# Altium footprint library Interface.PcbLib: 28 footprints (part 2 of 2)
Each footprint in its own frame and in the unit in brackets; x right, y up, seen from the top. Pads: shape width x height; smd on the part's side, far side on the other; paste and mask are expansions set on the pad; w line width, h text height; cw(c..) or ccw(c..) is an arc to the next point about the centre after c.
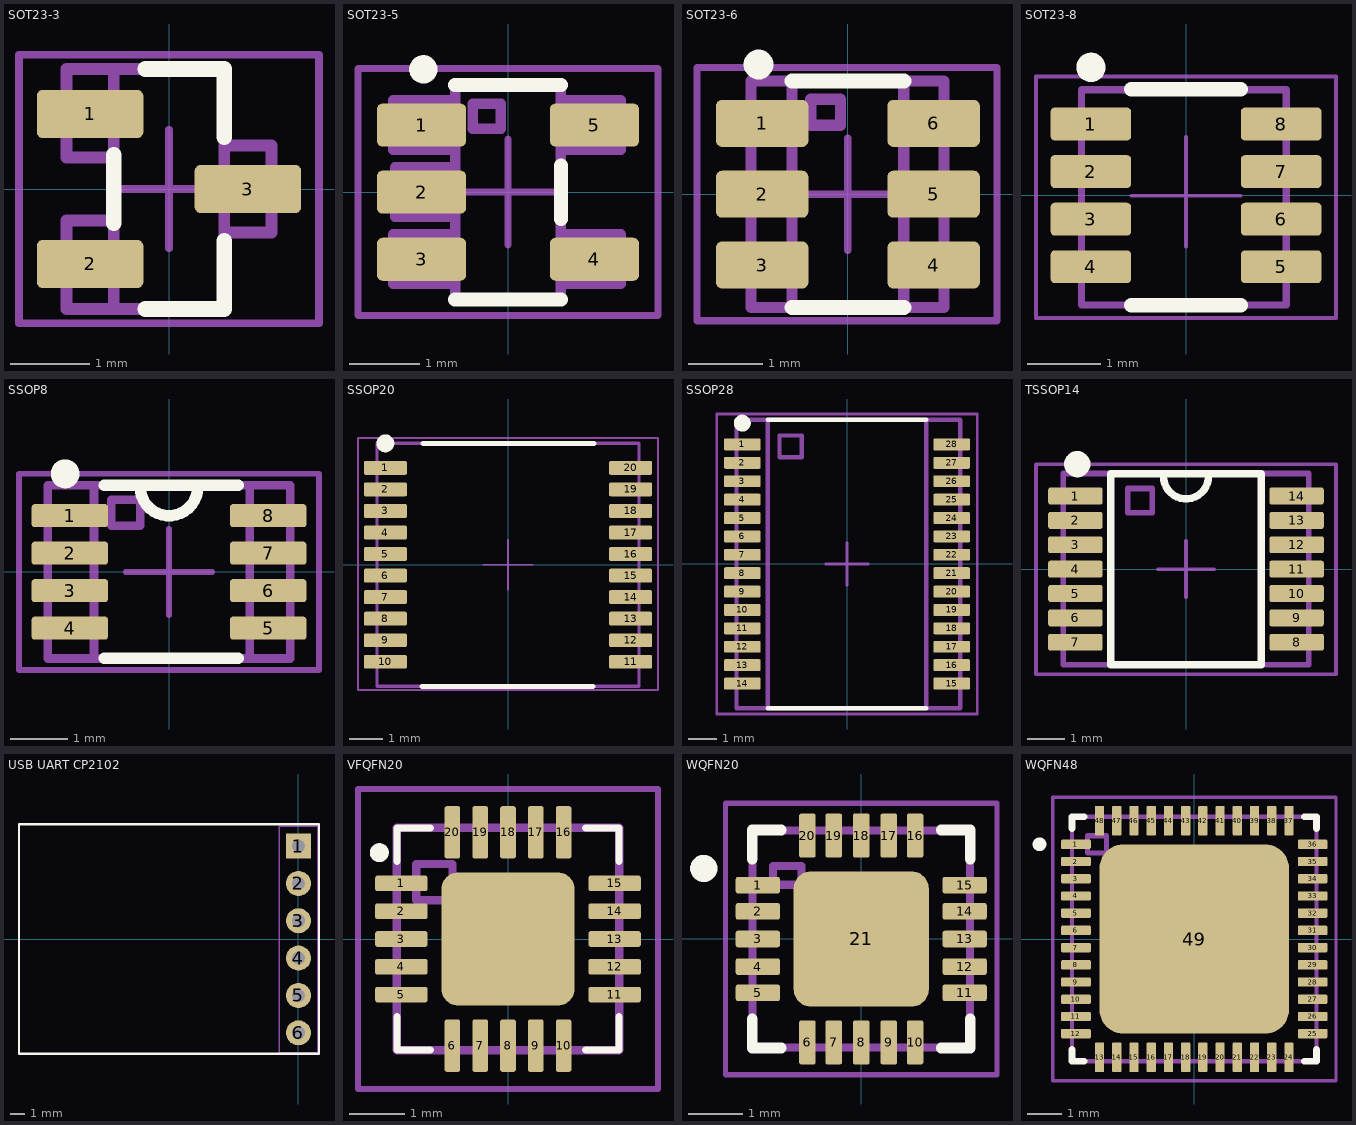
[diagram p1: the footprints below, top view; thin cyan lines are the x and y axes]

## SOT23-3 [mm]
height 1.12
pads (3):
  rrect25% 1.35x0.61 smd: 1(-1,0.95) 2(-1,-0.95) 3(1,0)
Top Overlay:
  lines w0.2: -0.7,-0.43 -0.7,0.43 ; -0.3,-1.52 0.7,-1.52 0.7,-0.66 ; -0.3,1.52 0.7,1.52 0.7,0.66
Mechanical 9:
  text ".Designator" at -4.25,2.75 h3.5
Mechanical 10:
  text ".Comment" at -3,-3.5 h2
Mechanical 11:
  lines w0.15: -0.7,-1.52 -0.7,1.52 ; -0.7,-0.4 -1.3,-0.4 -1.3,-1.52 0.7,-1.52 0.7,1.52 -1.3,1.52 -1.3,0.4 -0.7,0.4 ; 0.7,-0.55 1.3,-0.55 1.3,0.55 0.7,0.55
Mechanical 15:
  lines w0.1: -0.75,0 0.75,0 ; 0,-0.75 0,0.75 ; -1.9,-1.7 -1.9,1.7 1.9,1.7 1.9,-1.7 -1.9,-1.7
3D body "SOT-23-3.STEP": height 1.1, standoff 0, extent -1.15,-1.5 1.15,1.5

## SOT23-5 [mm]
height 1.12
pads (5):
  rrect25% 1.26x0.61 smd: 1(-1.225,0.95) 2(-1.225,0) 3(-1.225,-0.95) 4(1.225,-0.95) 5(1.225,0.95)
Top Overlay:
  circle w0.2: c-1.2,1.74 r0.1
  lines w0.2: -0.75,-1.52 0.75,-1.52 ; -0.75,1.52 0.75,1.52 ; 0.75,-0.38 0.75,0.38
Mechanical 9:
  text ".Designator" at -4.575,2.7 h3
Mechanical 10:
  text ".Comment" at -3.325,-3.55 h2
Mechanical 11:
  lines w0.15: -0.75,-1.3 -1.625,-1.3 -1.625,-0.6 -0.75,-0.6 ; -0.75,-0.35 -1.6,-0.35 -1.6,0.35 -0.75,0.35 ; -0.75,0.6 -1.625,0.6 -1.625,1.3 -0.75,1.3 ; 0.75,-1.3 1.6,-1.3 1.6,-0.6 0.75,-0.6 ; 0.75,0.6 1.6,0.6 1.6,1.3 0.75,1.3 ; -0.75,-1.52 -0.75,1.52 0.75,1.52 0.75,-1.52 -0.75,-1.52 ; -0.5,0.9 -0.5,1.25 -0.1,1.25 -0.1,0.9 -0.5,0.9
Mechanical 15:
  lines w0.1: -0.75,0 0.75,0 ; 0,-0.75 0,0.75 ; -2.125,-1.75 2.125,-1.75 2.125,1.75 -2,1.75 -2.125,1.75 -2.125,-1.75
3D body "User Library-SOT23-5-3.STEP": height 1.45, standoff 0.01, extent -1.6,-1.555 1.6,1.545

## SOT23-6 [mm]
height 1.12
pads (6):
  rrect25% 1.24x0.63 smd: 1(-1.15,0.95) 2(-1.15,0) 3(-1.15,-0.95) 4(1.15,-0.95) 5(1.15,0) 6(1.15,0.95)
Top Overlay:
  circle w0.2: c-1.2,1.74 r0.1
  lines w0.2: -0.75,-1.52 0.75,-1.52 ; -0.75,1.52 0.75,1.52
Mechanical 9:
  text ".Designator" at -4.275,2.525 h3.5
Mechanical 10:
  text ".Comment" at -3.025,-3.025 h2
Mechanical 11:
  lines w0.15: -0.75,-1.52 -0.75,1.52 ; 0.75,-1.52 0.75,1.52 ; -1.3,-1.52 1.29,-1.52 1.29,1.52 -1.3,1.52 -1.3,-1.52 ; -0.5,0.925 -0.5,1.275 -0.1,1.275 -0.1,0.925 -0.5,0.925
Mechanical 15:
  lines w0.1: -0.75,0 0.75,0 ; 0,-0.75 0,0.75 ; -2.025,-1.7 2,-1.7 2,1.7 -2.025,1.7 -2.025,-1.7
3D body "SW3dPS-SOT-23-6.STEP": height 1.09, standoff 0, extent -1.201,-1.397 1.225,1.397

## SOT23-8 [mm]
height 1.12
pads (8):
  rrect25% 1.1x0.45 smd: 1(-1.3,0.975) 2(-1.3,0.325) 3(-1.3,-0.325) 4(-1.3,-0.975) 5(1.3,-0.975) 6(1.3,-0.325) 7(1.3,0.325) 8(1.3,0.975)
Top Overlay:
  circle w0.2: c-1.3,1.75 r0.1
  lines w0.2: -0.75,-1.5 0.75,-1.5 ; -0.75,1.45 0.75,1.45
Mechanical 13:
  lines w0.1: -1.429,-1.498 1.371,-1.498 1.371,1.442 -1.429,1.442 -1.429,-1.498
Mechanical 15:
  lines w0.05: -0.75,-0.003 0.75,-0.003 ; 0,-0.703 0,0.797 ; -2.05,-1.675 -2.05,1.625 2.05,1.625 2.05,-1.675 -2.05,-1.675
3D body "User Library-sot238.step": height 1.2, standoff 0, extent -1.429,-1.498 1.371,1.442

## SSOP8 [mm]
height 1.75
pads (8):
  rrect25% 1.32x0.4 smd: 1(-1.72,0.975) 2(-1.72,0.325) 3(-1.72,-0.325) 4(-1.72,-0.975) 5(1.72,-0.975) 6(1.72,-0.325) 7(1.72,0.325) 8(1.72,0.975)
Top Overlay:
  circle w0.25: c-1.8,1.7 r0.125
  lines w0.2: -1.125,-1.5 1.2,-1.5 ; -1.125,1.5 1.2,1.5 ; -0.5,1.475 ccw(c0,1.475) 0.5,1.475
Mechanical 9:
  text ".Designator" at -4.25,2.8 h3.5
Mechanical 10:
  text ".Comment" at -3,-3.45 h2
Mechanical 11:
  lines w0.15: -1.3,-1.5 1.4,-1.5 ; -1.3,-1.5 -1.3,1.5 ; -1.3,-1.5 -2.1,-1.5 -2.1,1.5 -1.3,1.5 ; -1.3,1.5 1.4,1.5 ; 1.4,-1.5 1.4,1.5 ; 1.4,-1.5 2.1,-1.5 2.1,1.5 1.4,1.5 ; -1,0.8 -1,1.25 -0.5,1.25 -0.5,0.8 -1,0.8
Mechanical 15:
  lines w0.1: -0.75,0 0.75,0 ; 0,-0.75 0,0.75 ; -2.6,-1.7 2.6,-1.7 2.6,1.7 -2.6,1.7 -2.6,-1.7
3D body "User Library-DCT-8.STEP": height 1.31, standoff 0.01, extent -2.1,-1.525 2.1,1.525

## SSOP20 [mm] "6.5mm x 6.4mm"
height 1.2
pads (20):
  rrect25% 1.3x0.42 smd: 1(-3.7,2.925) 2(-3.7,2.275) 3(-3.7,1.625) 4(-3.7,0.975) 5(-3.7,0.325) 6(-3.7,-0.325) 7(-3.7,-0.975) 8(-3.7,-1.625) 9(-3.7,-2.275) 10(-3.7,-2.925) 11(3.7,-2.925) 12(3.7,-2.275) 13(3.7,-1.625) 14(3.7,-0.975) 15(3.7,-0.325) 16(3.7,0.325) 17(3.7,0.975) 18(3.7,1.625) 19(3.7,2.275) 20(3.7,2.925)
Top Overlay:
  circle w0.3: c-3.7,3.665 r0.12
  lines w0.15: -2.596,-3.665 2.562,-3.665 ; -2.562,3.665 2.596,3.665
Mechanical 13:
  lines w0.1: -3.95,-3.665 3.95,-3.665 3.95,3.665 -3.95,3.665 -3.95,-3.665
Mechanical 15:
  lines w0.05: -0.75,0 0.75,0 ; 0,-0.75 0,0.75 ; -4.525,-3.775 4.525,-3.775 4.525,3.825 -4.525,3.825 -4.525,-3.775
3D body "User Library-SSOP 20 PIN-1.step": height 1.98, standoff -0.01, extent -3.95,-3.665 3.95,3.665

## SSOP28 [mm]
height 1.1
pads (28):
  rrect25% 1.3x0.42 smd: 1(-3.7,4.225) 2(-3.7,3.575) 3(-3.7,2.925) 4(-3.7,2.275) 5(-3.7,1.625) 6(-3.7,0.975) 7(-3.7,0.325) 8(-3.7,-0.325) 9(-3.7,-0.975) 10(-3.7,-1.625) 11(-3.7,-2.275) 12(-3.7,-2.925) 13(-3.7,-3.575) 14(-3.7,-4.225) 15(3.7,-4.225) 16(3.7,-3.575) 17(3.7,-2.925) 18(3.7,-2.275) 19(3.7,-1.625) 20(3.7,-0.975) 21(3.7,-0.325) 22(3.7,0.325) 23(3.7,0.975) 24(3.7,1.625) 25(3.7,2.275) 26(3.7,2.925) 27(3.7,3.575) 28(3.7,4.225)
Top Overlay:
  circle w0.3: c-3.7,4.975 r0.15
  lines w0.15: -2.8,-5.1 2.8,-5.1 ; -2.8,5.1 2.8,5.1
Mechanical 9:
  text ".Designator" at -4.6,5.875 h3.5
Mechanical 10:
  text ".Comment" at -3,-3.825 h2
Mechanical 11:
  lines w0.15: -2.8,-5.1 -2.8,5.1 ; 2.8,-5.1 2.8,5.1 ; -3.9,-5.1 4,-5.1 4,5.1 -3.9,5.1 -3.9,-5.1 ; -2.381,3.775 -2.381,4.538 -1.6,4.538 -1.6,3.775 -2.381,3.775
Mechanical 15:
  lines w0.1: -0.75,0 0.75,0 ; 0,-0.75 0,0.75 ; -4.6,-5.3 -4.6,5.3 4.6,5.3 4.6,-5.3 -4.6,-5.3
3D body "User Library-SSOP-28-3.STEP": height 1.9, standoff 0, extent -3.9,-5.1 3.9,5.1

## TSSOP14 [mm]
height 1.1
pads (14):
  rrect25% 1.45x0.45 smd: 1(-2.95,1.95) 2(-2.95,1.3) 3(-2.95,0.65) 4(-2.95,0) 5(-2.95,-0.65) 6(-2.95,-1.3) 7(-2.95,-1.95) 8(2.95,-1.95) 9(2.95,-1.3) 10(2.95,-0.65) 11(2.95,0) 12(2.95,0.65) 13(2.95,1.3) 14(2.95,1.95)
Top Overlay:
  circle w0.4: c-2.9,2.8 r0.15
  lines w0.2: -0.6,2.475 ccw(c0,2.475) 0.6,2.475 ; -2,-2.55 2,-2.55 2,2.55 -2,2.55 -2,-2.55
Mechanical 9:
  text ".Designator" at -4.6,3.3 h3.5
Mechanical 10:
  text ".Comment" at -2.7,-4.1 h2
Mechanical 11:
  lines w0.15: -2,-2.55 -2,2.55 ; 2,-2.55 2,2.45 ; -3.275,-2.55 -3.275,2.55 3.275,2.55 3.275,-2.55 -3.275,-2.55 ; -1.55,1.5 -0.9,1.5 -0.9,2.15 -1.55,2.15 -1.55,1.5
Mechanical 15:
  lines w0.1: -0.75,0 0.75,0 ; 0,-0.75 0,0.75 ; -4,-2.8 -4,2.8 4,2.8 4,-2.8 -4,-2.8
3D body "User Library-TSSOP-14.STEP": height 1.2, standoff 0, extent -3.2,-2.5 3.2,2.5

## USB UART CP2102 [mm]
height 0.05
pads (6):
  rect 1.7x1.7 hole 0.9: 1(0,6.345)
  round 1.7 hole 0.9: 2(0,3.805) 3(0,1.265) 5(0,-3.815) 6(0,-6.355)
  round 1.7 hole 0.9 mask+0.102: 4(0,-1.275)
Top Overlay:
  lines w0.15: -19,-7.775 1.4,-7.775 1.4,7.825 -19,7.825 -19,-7.775
Mechanical 7:
  lines w0.1: -1.3,-7.7 1.3,-7.7 1.3,7.7 -1.3,7.7 -1.3,-7.7
Mechanical 10:
  text ".Designator" at 1.2,8.4 h0.8
  text ".Comment" at 1.1,-0.3 h0.6
3D body "User Library-PLS-6.step": height 8.54, standoff -3, extent -1.27,-7.585 1.27,7.655

## VFQFN20 [mm]
height 0.8
pads (21):
  rrect25% 0.94x0.28 smd: 1(-1.92,1) 2(-1.92,0.5) 3(-1.92,0) 4(-1.92,-0.5) 5(-1.92,-1) 11(1.92,-1) 12(1.92,-0.5) 13(1.92,0) 14(1.92,0.5) 15(1.92,1)
  rrect25% 0.28x0.94 smd: 6(-1,-1.92) 7(-0.5,-1.92) 8(0,-1.92) 9(0.5,-1.92) 10(1,-1.92) 16(1,1.92) 17(0.5,1.92) 18(0,1.92) 19(-0.5,1.92) 20(-1,1.92)
  rrect25% 2.4x2.4 smd: ""(0,0)
Top Overlay:
  circle w0.2: c-2.316,1.554 r0.07
  lines w0.127: -2,-1.4 -2,-2 -1.4,-2 ; -2,1.4 -2,2 -1.4,2 ; 1.4,-2 2,-2 2,-1.4 ; 1.4,2 2,2 2,1.4
Top Paste:
  region: 1.091,-0.131 1.091,-1.091 0.129,-1.091 0.129,-0.131
  region: -1.09,0.13 -1.09,1.09 -0.13,1.09 -0.13,0.13
  region: -0.13,-1.09 -1.09,-1.09 -1.09,-0.13 -0.13,-0.13
  region: 0.13,1.09 1.09,1.09 1.09,0.13 0.13,0.13
Mechanical 9:
  text ".Designator" at -4.6,3.3 h3.5
Mechanical 10:
  text ".Comment" at -2.7,-4.1 h2
Mechanical 11:
  lines w0.15: -2,-2 -2,2 ; -2,-2 -2,2 ; -2,-2 2,-2 ; -2,-2 2,-2 ; -2,2 2,2 ; -2,2 2,2 ; 2,-2 2,2 ; 2,-2 2,2 ; -1.65,0.7 -1,0.7 -1,1.35 -1.65,1.35 -1.65,0.7
Mechanical 15:
  lines w0.1: -0.75,0 0.75,0 ; 0,-0.75 0,0.75 ; -2.7,-2.7 -2.7,2.7 2.7,2.7 2.7,-2.7 -2.7,-2.7
3D body "User Library-QFN20_4x4x0_8 (1).step": height 0.78, standoff -0.02, extent -2.01,-2.01 2.01,2.01

## WQFN20 [mil]
height 31.5
pads (21):
  rrect25% 32x12 smd: 1(-75,39) 2(-75,20) 3(-75,0) 4(-75,-20) 5(-75,-39) 11(75,-39) 12(75,-20) 13(75,0) 14(75,20) 15(75,39)
  rrect25% 12x32 smd: 6(-39,-75) 7(-20,-75) 8(0,-75) 9(20,-75) 10(39,-75) 16(39,75) 17(20,75) 18(0,75) 19(-20,75) 20(-39,75)
  rrect25% 98x98 smd: 21(0,0)
Top Overlay:
  circle w9.84: c-114.17,51.18 r4.92
  lines w7.87: -79,-58 -79,-79 -58,-79 ; -79,58 -79,79 -58,79 ; 58,-79 79,-79 79,-58 ; 58,79 79,79 79,58
Mechanical 9:
  text ".Designator" at -192.91,141.73 h137.8
Mechanical 10:
  text ".Comment" at -114.17,-169.29 h78.74
Mechanical 11:
  lines w5.91: -78.74,-78.74 78.74,-78.74 78.74,78.74 -78.74,78.74 -78.74,-78.74 ; -63.98,39.37 -63.98,52.88 -43.31,52.88 -43.31,39.37 -63.98,39.37
Mechanical 15:
  lines w3.94: -19.69,0 19.68,0 ; 0,-19.69 0,19.68 ; -98.43,-98.43 98.43,-98.43 98.43,98.43 -98.43,98.43 -98.43,-98.43
3D body "User Library-QFN20_4x4x0_8 (1).step": height 30.71, standoff -0.79, extent -79.13,-79.13 79.14,79.13

## WQFN48 [mm] "QFN, 28-Leads, Body 5,0x5,0mm (max), Pitch 0,50mm, IPC Medium Density"
height 1
pads (49):
  rrect25% 0.86x0.27 smd: 1(-3.435,2.75) 2(-3.435,2.25) 3(-3.435,1.75) 4(-3.435,1.25) 5(-3.435,0.75) 6(-3.435,0.25) 7(-3.435,-0.25) 8(-3.435,-0.75) 9(-3.435,-1.25) 10(-3.435,-1.75) 11(-3.435,-2.25) 12(-3.435,-2.75) 25(3.435,-2.75) 26(3.435,-2.25) 27(3.435,-1.75) 28(3.435,-1.25) 29(3.435,-0.75) 30(3.435,-0.25) 31(3.435,0.25) 32(3.435,0.75) 33(3.435,1.25) 34(3.435,1.75) 35(3.435,2.25) 36(3.435,2.75)
  rrect25% 0.27x0.86 smd: 13(-2.75,-3.435) 14(-2.25,-3.435) 15(-1.75,-3.435) 16(-1.25,-3.435) 17(-0.75,-3.435) 18(-0.25,-3.435) 19(0.25,-3.435) 20(0.75,-3.435) 21(1.25,-3.435) 22(1.75,-3.435) 23(2.25,-3.435) 24(2.75,-3.435) 37(2.75,3.435) 38(2.25,3.435) 39(1.75,3.435) 40(1.25,3.435) 41(0.75,3.435) 42(0.25,3.435) 43(-0.25,3.435) 44(-0.75,3.435) 45(-1.25,3.435) 46(-1.75,3.435) 47(-2.25,3.435) 48(-2.75,3.435)
  rrect25% 5.5x5.5 smd: 49(0,0)
Top Overlay:
  circle w0.2: c-4.495,2.75 r0.1
  lines w0.2: -3.55,-3.205 -3.55,-3.55 -3.205,-3.55 ; -3.55,3.205 -3.55,3.55 -3.205,3.55 ; 3.205,-3.55 3.55,-3.55 3.55,-3.205 ; 3.205,3.55 3.55,3.55 3.55,3.205
Top Paste:
  region: -2.245,2.245 -0.505,2.245 -0.505,0.505 -2.245,0.505
  region: 0.505,2.245 2.245,2.245 2.245,0.505 0.505,0.505
  region: -2.245,-0.505 -0.505,-0.505 -0.505,-2.245 -2.245,-2.245
  region: 0.505,-0.505 2.245,-0.505 2.245,-2.245 0.505,-2.245
Mechanical 9:
  text ".Designator" at -6.1,5.3 h3.5
Mechanical 10:
  text ".Comment" at -2.75,-5.7 h2
Mechanical 11:
  lines w0.127: -3.55,-3.55 3.55,-3.55 ; -3.55,-3.55 -3.55,3.55 ; -3.55,-3.55 3.55,-3.55 ; -3.55,-3.55 -3.55,3.55 ; -3.55,3.55 3.55,3.55 ; -3.55,3.55 3.55,3.55 ; 3.55,-3.55 3.55,3.55 ; 3.55,-3.55 3.55,3.55
  lines w0.15: -3.1,2.5 -3.1,3 -2.55,3 -2.55,2.5 -3.1,2.5
Mechanical 15:
  lines w0.1: -4.115,-4.115 4.115,-4.115 4.115,4.115 -4.115,4.115 -4.115,-4.115
3D body "User Library-WQFN-48.step": height 1, standoff 0, extent -3.51,-3.51 3.51,3.51